# Altium schematic symbol library Conn_JST_SM04B-PASS-TBT_LF_SN_eec.SchLib: 1 symbol
Pins are listed as number, name and electrical type; pins without a type are passive.

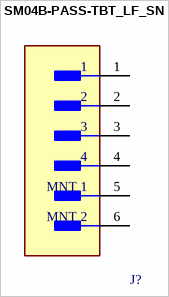
[diagram p0: symbol SM04B-PASS-TBT_LF_SN]

## SM04B-PASS-TBT_LF_SN
designator J?  (value not drawn)
pins: 1, 2, 3, 4, 5 MNT 1, 6 MNT 2